# Altium footprint library Leadless.pcbLib: 37 footprints (part 3 of 3)
Each footprint in its own frame and in the unit in brackets; x right, y up, seen from the top. Pads: shape width x height; smd on the part's side, far side on the other; paste and mask are expansions set on the pad; w line width, h text height; cw(c..) or ccw(c..) is an arc to the next point about the centre after c.
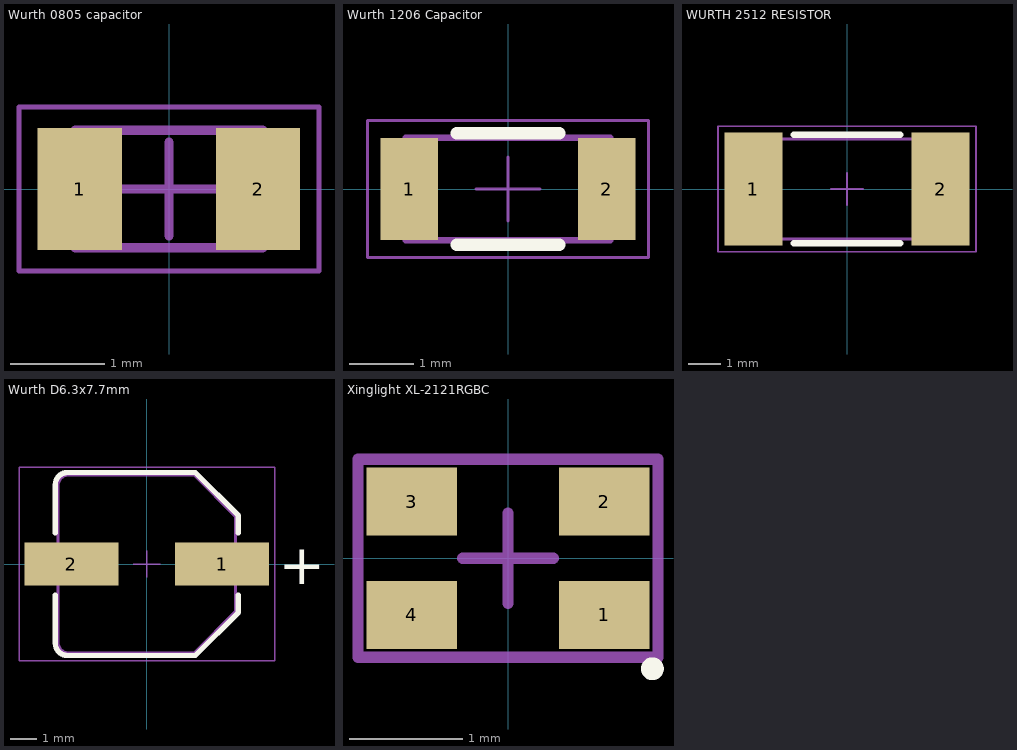
[diagram p2: the footprints below, top view; thin cyan lines are the x and y axes]

## Wurth 0805 capacitor [mm] "Ceramic Capacitors, body 2x1.25mm"
height 1.35
pads (2):
  rect 0.9x1.3 smd: 1(-0.95,0) 2(0.95,0)
Top Courtyard:
  lines w0.05: -1.6,-0.875 -1.6,0.875 1.6,0.875 1.6,-0.875 -1.6,-0.875
Top Component Center:
  lines w0.1: -0.5,0 0.5,0 ; 0,-0.5 0,0.5
Top Assembly:
  lines w0.1: -1,-0.625 1,-0.625 1,0.625 -1,0.625 -1,-0.625
Top Designator (Mech14):
  text ".Designator" at -3.647,-0.357 h1
3D body "CAPC2012X12N.step": height 1.25, standoff 0, extent -1,-0.625 1,0.625

## Wurth 1206 Capacitor [mm] "Ceramic Capacitors, body 3.2x1.6mm"
height 1.05
pads (2):
  rect 0.9x1.6 smd: 1(-1.55,0) 2(1.55,0)
Top Overlay:
  lines w0.2: -0.8,-0.875 0.8,-0.875 ; -0.8,0.875 0.8,0.875
Top Courtyard:
  lines w0.05: -2.2,-1.075 -2.2,1.075 2.2,1.075 2.2,-1.075 -2.2,-1.075
Top Component Center:
  lines w0.05: -0.5,0 0.5,0 ; 0,-0.5 0,0.5
Top Assembly:
  lines w0.1: -1.6,-0.8 1.6,-0.8 1.6,0.8 -1.6,0.8 -1.6,-0.8
Top Designator (Mech14):
  text ".Designator" at -1.823,-0.179 h0.5
3D body "CAPC3216X10N.step": height 0.95, standoff 0, extent -1.6,-0.8 1.6,0.8

## WURTH 2512 RESISTOR [mm] "Metal Plate Resistors, SMT, body size 6.3x3.1mm"
height 0.66
pads (2):
  rect 1.8x3.5 smd: 1(-2.9,0) 2(2.9,0)
Top Overlay:
  lines w0.2: -1.65,-1.675 1.65,-1.675 ; -1.65,1.675 1.65,1.675
Top 3D Body:
  lines w0.1: -3.15,-1.55 3.15,-1.55 3.15,1.55 -3.15,1.55 -3.15,-1.55
Top Courtyard:
  lines w0.05: -0.5,0 0.5,0 ; 0,-0.5 0,0.5 ; -4,-1.95 4,-1.95 4,1.95 -4,1.95 -4,-1.95
Top Component Outline:
  lines w0.1: -3.15,-1.55 3.15,-1.55 3.15,1.55 -3.15,1.55 -3.15,-1.55
Top Designator (Mech14):
  text ".Designator" at -7.498,-0.5 h1.5
3D body "WRIS-PSMC_2512.stp": height 0.51, standoff 0, extent -3.15,-1.55 3.15,1.55

## Wurth D6.3x7.7mm [mm] "Aluminum Hybrid Polymer Capacitor, SMT, body diameter 6.3mm"
height 7.7
pads (2):
  rect 3.5x1.6 smd: 1(2.8,0) 2(-2.8,0)
Top Overlay:
  lines w0.2: -3.4,-1.15 -3.4,-2.95 ccw(c-2.95,-2.95) -2.95,-3.4 1.8,-3.4 3.4,-1.8 3.4,-1.15 ; -3.4,1.15 -3.4,2.95 cw(c-2.95,2.95) -2.95,3.4 1.8,3.4 3.4,1.8 3.4,1.15
  text "+" at 4.9,-0.75 h1.5
Top Courtyard:
  lines w0.05: -0.5,0 0.5,0 ; 0,-0.5 0,0.5 ; -4.75,-3.6 -4.75,3.6 4.75,3.6 4.75,-3.6 -4.75,-3.6
Top Component Outline:
  lines w0.1: -3.3,-2.9 ccw(c-2.9,-2.9) -2.9,-3.3 1.75,-3.3 3.3,-1.75 3.3,1.75 1.75,3.3 -2.9,3.3 ccw(c-2.9,2.9) -3.3,2.9 -3.3,-2.9
Top Designator (Mech14):
  text ".Designator" at -7.498,-0.5 h1.5
3D body "6.3x7.7x2.2.stp": height 7.75, standoff 0.05, extent -3.6,-3.3 3.6,3.3

## Xinglight XL-2121RGBC [mm]
height 1
pads (4):
  rect 0.8x0.6 smd: 1(0.85,-0.5) 2(0.85,0.5) 3(-0.85,0.5) 4(-0.85,-0.5)
Top Overlay:
  circle w0.15: c1.276,-0.976 r0.025
Mechanical 1:
  lines w0.1: -1.325,-0.875 1.325,-0.875 1.325,0.875 -1.325,0.875 -1.325,-0.875
Top Courtyard:
  lines w0.1: -1.325,-0.875 1.325,-0.875 1.325,0.875 -1.325,0.875 -1.325,-0.875
Top Component Center:
  lines w0.1: -0.4,0 0.4,0 ; 0,-0.4 0,0.4
3D body: height 1, standoff 0, extent -1.05,-1.05 1.05,1.05